# Altium footprint library DRF1609H.PcbLib: 2 footprints
Each footprint in its own frame and in the unit in brackets; x right, y up, seen from the top. Pads: shape width x height; smd on the part's side, far side on the other; paste and mask are expansions set on the pad; w line width, h text height; cw(c..) or ccw(c..) is an arc to the next point about the centre after c.
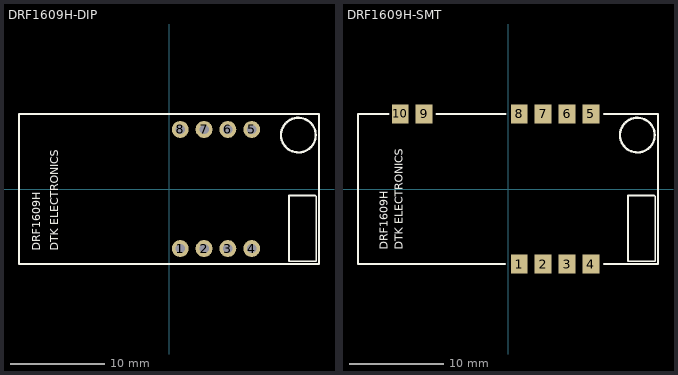
[diagram p0: the footprints below, top view; thin cyan lines are the x and y axes]

## DRF1609H-DIP [mm]
height 3
pads (8):
  round 1.8 hole 1: 1(1.2,-6.35) 2(3.74,-6.35) 3(6.28,-6.35) 4(8.82,-6.35) 5(8.82,6.35) 6(6.28,6.35) 7(3.74,6.35) 8(1.2,6.35)
Top Overlay:
  circle w0.25: c13.799,5.75 r1.851
  lines w0.2: -0.25,8 -7.65,8 -12.75,8 -16,8 -16,-8 -2.7,-8 0.175,-8 10.325,-8 ; -0.2,8 10.25,8 16,8 16,-8 10.25,-8 ; 12.8,-0.8 12.8,-7.7 15.7,-7.7 15.7,-0.8 ; 12.8,-0.7 15.6,-0.7
  text "DRF1609H" at -13.4,-6.575 h1.5
  text "DTK ELECTRONICS" at -11.475,-6.6 h1.5

## DRF1609H-SMT [mm]
height 3
pads (10):
  rect 1.8x2 smd: 1(1.2,-8) 2(3.75,-8) 3(6.3,-8) 4(8.85,-8) 5(8.85,8) 6(6.3,8) 7(3.75,8) 8(1.2,8) 9(-8.95,8) 10(-11.5,8)
Top Overlay:
  circle w0.25: c13.799,5.75 r1.851
  lines w0.2: -12.75,8 -16,8 -16,-8 -2.7,-8 -0.325,-8 ; -7.65,8 -0.25,8 ; 10.25,-8 16,-8 16,8 10.25,8 ; 12.8,-0.8 12.8,-7.7 15.7,-7.7 15.7,-0.8 ; 12.8,-0.7 15.6,-0.7
  text "DRF1609H" at -12.525,-6.5 h1.5
  text "DTK ELECTRONICS" at -10.9,-6.5 h1.5